# Altium schematic symbol library Battery.SchLib: 1 symbol
Pins are listed as number, name and electrical type; pins without a type are passive.

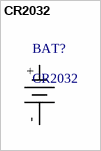
[diagram p0: symbol CR2032]

## CR2032
designator BAT?
footprint CR2032 on-pcb Battery holder (on-pcb Battery holder)
pins: + (power), - (power)